# Altium schematic symbol library Schlib1.SchLib: 4 symbols
Pins are listed as number, name and electrical type; pins without a type are passive.

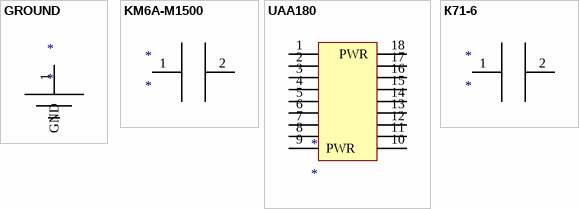
[diagram p0: symbols GROUND to К71-6]

## GROUND
designator *
pins: 1 GND

## KM6А-М1500
designator *
pins: 1, 2

## UAA180
designator *
pins: 1, 2, 3, 4, 5, 6, 7, 8, 9 PWR (power), 10, 11, 12, 13, 14, 15, 16, 17, 18 PWR (power)

## К71-6
designator *
pins: 1, 2